# Altium schematic symbol library IC.SchLib: 6 symbols
Pins are listed as number, name and electrical type; pins without a type are passive.

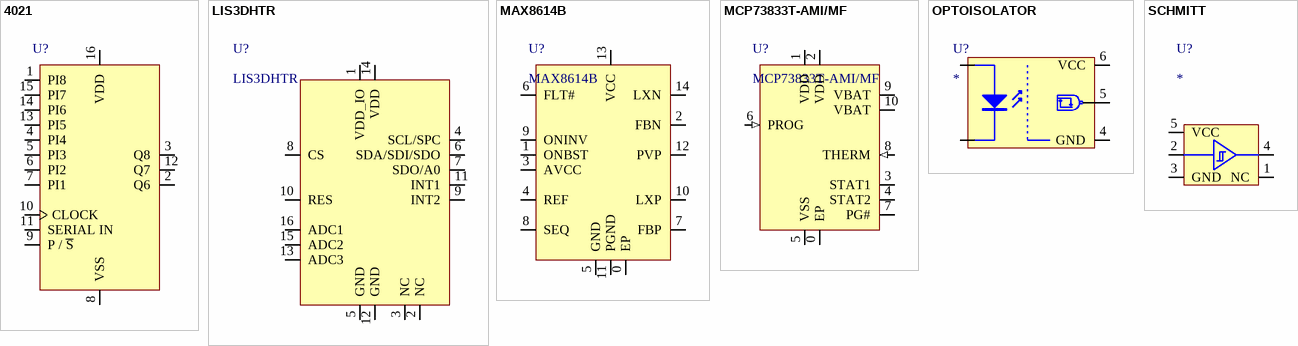
[diagram p0: symbols 4021 to SCHMITT]

## 4021
designator U?  (value not drawn)
IC SHIFT REGISTER 8STAGE 16SOIC; Manufacturer Part Number: CD4021BQDRQ1; Manufacturer: Texas Instruments; Value: CD4021BQDRQ1; Supplier: Digikey; Supplier Part Number: 296-27439-1-ND
pins: 1 PI8, 2 Q6, 3 Q8, 4 PI4, 5 PI3, 6 PI2, 7 PI1, 8 VSS, 9 P / ~{S}, 10 CLOCK, 11 SERIAL IN, 12 Q7, 13 PI5, 14 PI6, 15 PI7, 16 VDD

## LIS3DHTR
designator U?
ACCEL 2-16G I2C/SPI 16LGA
pins: 1 VDD_IO, 2 NC, 3 NC, 4 SCL/SPC, 5 GND, 6 SDA/SDI/SDO, 7 SDO/A0, 8 CS, 9 INT2, 10 RES, 11 INT1, 12 GND, 13 ADC3, 14 VDD, 15 ADC2, 16 ADC1

## MAX8614B
designator U?
IC REG CONV CCD 2OUT 14TDFN
pins: 0 EP, 1 ONBST, 2 FBN, 3 AVCC, 4 REF, 5 GND, 6 FLT#, 7 FBP, 8 SEQ, 9 ONINV, 10 LXP, 11 PGND, 12 PVP, 13 VCC, 14 LXN

## MCP73833T-AMI/MF
designator U?
IC LI-ION/LI-POLY CTRLR 10DFN
pins: 0 EP (power), 1 VDD (power), 2 VDD (power), 3 STAT1 (oc), 4 STAT2 (oc), 5 VSS (power), 6 PROG (in), 7 PG# (oc), 8 THERM (in), 9 VBAT, 10 VBAT

## OPTOISOLATOR
designator U?
pins: 1 A "Anode", 3 K "Cathode", 4 GND, 5 Vo, 6 VCC

## SCHMITT
designator U?
pins: 1 NC, 2 A, 3 GND, 4 Y, 5 VCC